# EAGLE library part AD6624A (library analog-devices_custom)
Four-Channel, 100 MSPS Digital Receive Signal Processor (RSP) Auto generated by make-symbol-device-package-bsdl.ulp Rev. 11 Source: 90033586AD6624A.bsdl.txt http://www.analog.com/UploadedFiles/Data_Sheets/171976900AD6624A_0.pdf
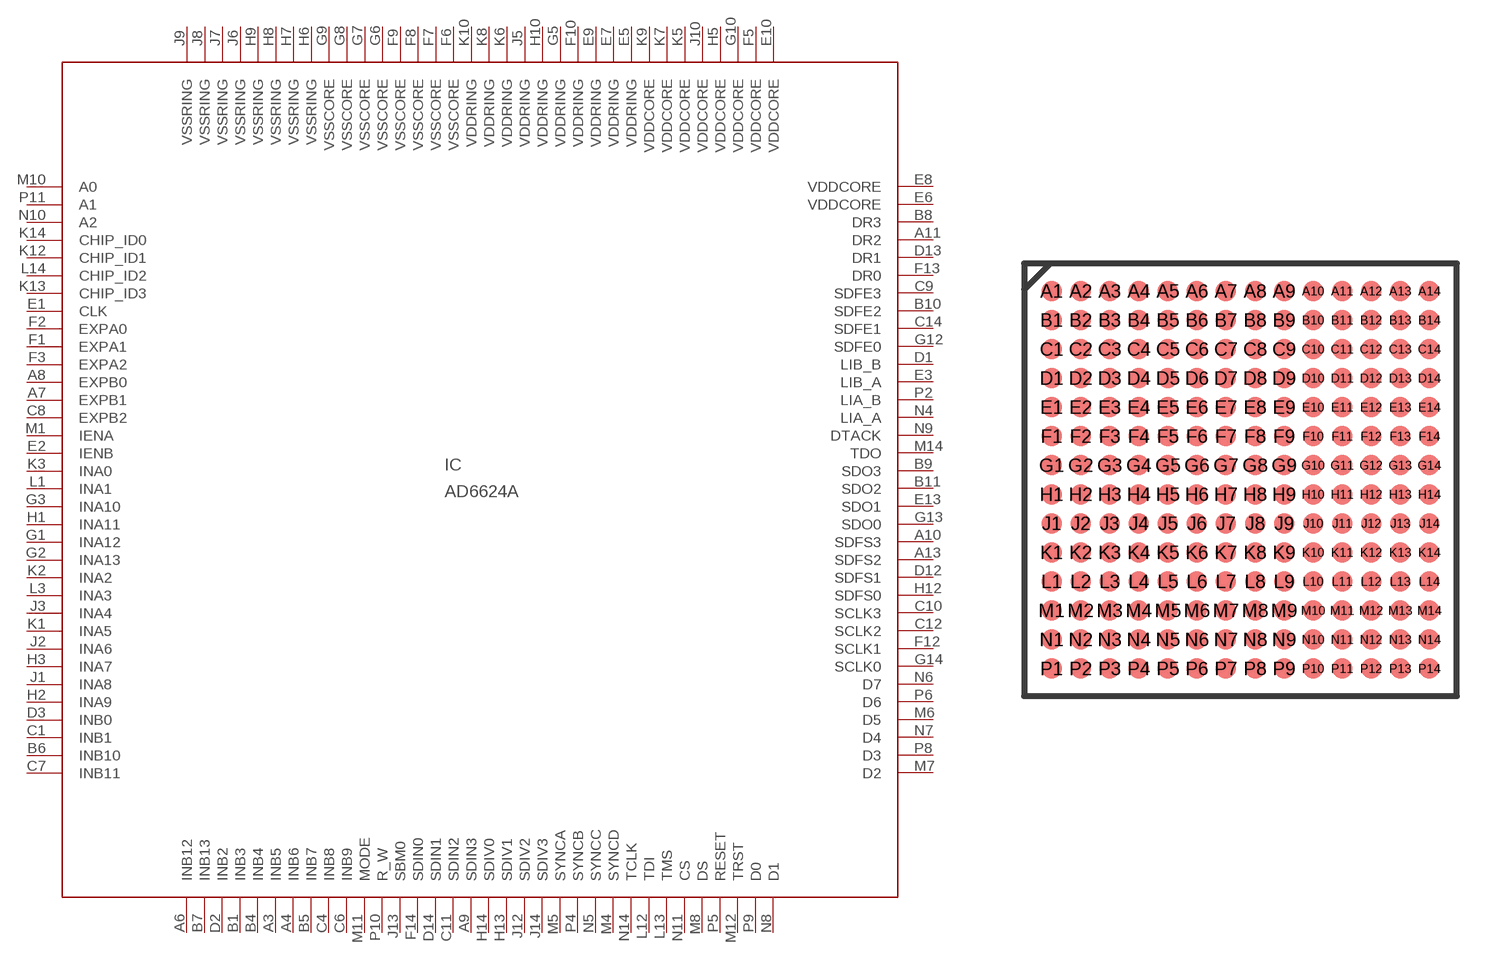
[diagram p61: symbol with the pads of PBGA196; footprint PBGA196]

Designator prefix IC

## AD6624A (MF: ALTERA CORPORATION; MPN: AD6624AABC; OC_FARNELL: unknown; OC_NEWARK: 94C0338)  [PBGA196]
A3  INB5  in
A4  INB6  in
A6  INB12  in
A7  EXPB1  in
A8  EXPB0  in
A9  SDIN3  in
A10  SDFS3
A11  DR2  hiz
A13  SDFS2
B1  INB3  in
B4  INB4  in
B5  INB7  in
B6  INB10  in
B7  INB13  in
B8  DR3  hiz
B9  SDO3  out
B10  SDFE2  hiz
B11  SDO2  out
C1  INB1  in
C4  INB8  in
C6  INB9  in
C7  INB11  in
C8  EXPB2  in
C9  SDFE3  hiz
C10  SCLK3
C11  SDIN2  in
C12  SCLK2
C14  SDFE1  hiz
D1  LIB_B  hiz
D2  INB2  in
D3  INB0  in
D12  SDFS1
D13  DR1  hiz
D14  SDIN1  in
E1  CLK  in
E2  IENB  in
E3  LIB_A  hiz
E5  VDDRING  pwr
E6  VDDCORE  pwr
E7  VDDRING  pwr
E8  VDDCORE  pwr
E9  VDDRING  pwr
E10  VDDCORE  pwr
E13  SDO1  out
F1  EXPA1  in
F2  EXPA0  in
F3  EXPA2  in
F5  VDDCORE  pwr
F6  VSSCORE  pwr
F7  VSSCORE  pwr
F8  VSSCORE  pwr
F9  VSSCORE  pwr
F10  VDDRING  pwr
F12  SCLK1
F13  DR0  hiz
F14  SDIN0  in
G1  INA12  in
G2  INA13  in
G3  INA10  in
G5  VDDRING  pwr
G6  VSSCORE  pwr
G7  VSSCORE  pwr
G8  VSSCORE  pwr
G9  VSSCORE  pwr
G10  VDDCORE  pwr
G12  SDFE0  hiz
G13  SDO0  out
G14  SCLK0
H1  INA11  in
H2  INA9  in
H3  INA7  in
H5  VDDCORE  pwr
H6  VSSRING  pwr
H7  VSSRING  pwr
H8  VSSRING  pwr
H9  VSSRING  pwr
H10  VDDRING  pwr
H12  SDFS0
H13  SDIV1  in
H14  SDIV0  in
J1  INA8  in
J2  INA6  in
J3  INA4  in
J5  VDDRING  pwr
J6  VSSRING  pwr
J7  VSSRING  pwr
J8  VSSRING  pwr
J9  VSSRING  pwr
J10  VDDCORE  pwr
J12  SDIV2  in
J13  SBM0  in
J14  SDIV3  in
K1  INA5  in
K2  INA2  in
K3  INA0  in
K5  VDDCORE  pwr
K6  VDDRING  pwr
K7  VDDCORE  pwr
K8  VDDRING  pwr
K9  VDDCORE  pwr
K10  VDDRING  pwr
K12  CHIP_ID1  in
K13  CHIP_ID3  in
K14  CHIP_ID0  in
L1  INA1  in
L3  INA3  in
L12  TDI  in
L13  TMS  in
L14  CHIP_ID2  in
M1  IENA  in
M4  SYNCD  in
M5  SYNCA  in
M6  D5
M7  D2
M8  DS  in
M10  A0  in
M11  MODE  in
M12  TRST  in
M14  TDO  out
N4  LIA_A  hiz
N5  SYNCC  in
N6  D7
N7  D4
N8  D1
N9  DTACK  out
N10  A2  in
N11  CS  in
N14  TCLK  in
P2  LIA_B  hiz
P4  SYNCB  in
P5  RESET  in
P6  D6
P8  D3
P9  D0
P10  R_W  in
P11  A1  in

## Footprint PBGA196 (pad centres in mm)
196-Lead PBGA (BC-196) Auto generated by make-symbol-device-package-bsdl.ulp Rev. 11 Source: 90033586AD6624A.bsdl.txt http://www.analog.com/UploadedFiles/Data_Sheets/171976900AD6624A_0.pdf
smd 0.7 x 0.7: A1 -6.5,6.5; A2 -5.5,6.5; A3 -4.5,6.5; A4 -3.5,6.5; A5 -2.5,6.5; A6 -1.5,6.5; A7 -0.5,6.5; A8 0.5,6.5; A9 1.5,6.5; A10 2.5,6.5; A11 3.5,6.5; A12 4.5,6.5; A13 5.5,6.5; A14 6.5,6.5; B1 -6.5,5.5; B2 -5.5,5.5; B3 -4.5,5.5; B4 -3.5,5.5; B5 -2.5,5.5; B6 -1.5,5.5; B7 -0.5,5.5; B8 0.5,5.5; B9 1.5,5.5; B10 2.5,5.5; B11 3.5,5.5; B12 4.5,5.5; B13 5.5,5.5; B14 6.5,5.5; C1 -6.5,4.5; C2 -5.5,4.5; C3 -4.5,4.5; C4 -3.5,4.5; C5 -2.5,4.5; C6 -1.5,4.5; C7 -0.5,4.5; C8 0.5,4.5; C9 1.5,4.5; C10 2.5,4.5; C11 3.5,4.5; C12 4.5,4.5; C13 5.5,4.5; C14 6.5,4.5; D1 -6.5,3.5; D2 -5.5,3.5; D3 -4.5,3.5; D4 -3.5,3.5; D5 -2.5,3.5; D6 -1.5,3.5; D7 -0.5,3.5; D8 0.5,3.5; D9 1.5,3.5; D10 2.5,3.5; D11 3.5,3.5; D12 4.5,3.5; D13 5.5,3.5; D14 6.5,3.5; E1 -6.5,2.5; E2 -5.5,2.5; E3 -4.5,2.5; E4 -3.5,2.5; E5 -2.5,2.5; E6 -1.5,2.5; E7 -0.5,2.5; E8 0.5,2.5; E9 1.5,2.5; E10 2.5,2.5; E11 3.5,2.5; E12 4.5,2.5; E13 5.5,2.5; E14 6.5,2.5; F1 -6.5,1.5; F2 -5.5,1.5; F3 -4.5,1.5; F4 -3.5,1.5; F5 -2.5,1.5; F6 -1.5,1.5; F7 -0.5,1.5; F8 0.5,1.5; F9 1.5,1.5; F10 2.5,1.5; F11 3.5,1.5; F12 4.5,1.5; F13 5.5,1.5; F14 6.5,1.5; G1 -6.5,0.5; G2 -5.5,0.5; G3 -4.5,0.5; G4 -3.5,0.5; G5 -2.5,0.5; G6 -1.5,0.5; G7 -0.5,0.5; G8 0.5,0.5; G9 1.5,0.5; G10 2.5,0.5; G11 3.5,0.5; G12 4.5,0.5; G13 5.5,0.5; G14 6.5,0.5; H1 -6.5,-0.5; H2 -5.5,-0.5; H3 -4.5,-0.5; H4 -3.5,-0.5; H5 -2.5,-0.5; H6 -1.5,-0.5; H7 -0.5,-0.5; H8 0.5,-0.5; H9 1.5,-0.5; H10 2.5,-0.5; H11 3.5,-0.5; H12 4.5,-0.5; H13 5.5,-0.5; H14 6.5,-0.5; J1 -6.5,-1.5; J2 -5.5,-1.5; J3 -4.5,-1.5; J4 -3.5,-1.5; J5 -2.5,-1.5; J6 -1.5,-1.5; J7 -0.5,-1.5; J8 0.5,-1.5; J9 1.5,-1.5; J10 2.5,-1.5; J11 3.5,-1.5; J12 4.5,-1.5; J13 5.5,-1.5; J14 6.5,-1.5; K1 -6.5,-2.5; K2 -5.5,-2.5; K3 -4.5,-2.5; K4 -3.5,-2.5; K5 -2.5,-2.5; K6 -1.5,-2.5; K7 -0.5,-2.5; K8 0.5,-2.5; K9 1.5,-2.5; K10 2.5,-2.5; K11 3.5,-2.5; K12 4.5,-2.5; K13 5.5,-2.5; K14 6.5,-2.5; L1 -6.5,-3.5; L2 -5.5,-3.5; L3 -4.5,-3.5; L4 -3.5,-3.5; L5 -2.5,-3.5; L6 -1.5,-3.5; L7 -0.5,-3.5; L8 0.5,-3.5; L9 1.5,-3.5; L10 2.5,-3.5; L11 3.5,-3.5; L12 4.5,-3.5; L13 5.5,-3.5; L14 6.5,-3.5; M1 -6.5,-4.5; M2 -5.5,-4.5; M3 -4.5,-4.5; M4 -3.5,-4.5; M5 -2.5,-4.5; M6 -1.5,-4.5; M7 -0.5,-4.5; M8 0.5,-4.5; M9 1.5,-4.5; M10 2.5,-4.5; M11 3.5,-4.5; M12 4.5,-4.5; M13 5.5,-4.5; M14 6.5,-4.5; N1 -6.5,-5.5; N2 -5.5,-5.5; N3 -4.5,-5.5; N4 -3.5,-5.5; N5 -2.5,-5.5; N6 -1.5,-5.5; N7 -0.5,-5.5; N8 0.5,-5.5; N9 1.5,-5.5; N10 2.5,-5.5; N11 3.5,-5.5; N12 4.5,-5.5; N13 5.5,-5.5; N14 6.5,-5.5; P1 -6.5,-6.5; P2 -5.5,-6.5; P3 -4.5,-6.5; P4 -3.5,-6.5; P5 -2.5,-6.5; P6 -1.5,-6.5; P7 -0.5,-6.5; P8 0.5,-6.5; P9 1.5,-6.5; P10 2.5,-6.5; P11 3.5,-6.5; P12 4.5,-6.5; P13 5.5,-6.5; P14 6.5,-6.5